# EAGLE library part M8 (library FSAE Electric)
Molex 8-pin Connectors
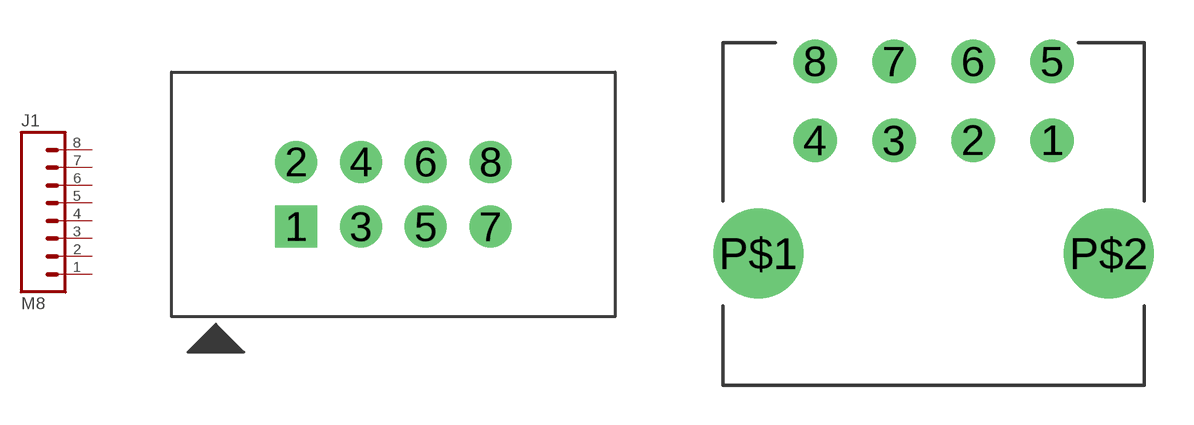
[diagram p8: symbol with the pads of 75869-132LF; footprints 75869-132LF, 0430450821]

Designator prefix J1

## M8IDC  [75869-132LF]
1  1  pas
2  2  pas
3  3  pas
4  4  pas
5  5  pas
6  6  pas
7  7  pas
8  8  pas

## M8NEEDSNEWNAME  [0430450821]
Pads as for 75869-132LF

## M80022232081 (PARTNO: 0022232081)  [MOLEX-1X8]
Pads as for 75869-132LF

## M80022232081-2 (PARTNO: 0022232081)  [MOLEX-1X8-2]
Pads as for 75869-132LF

## M8S08B-PASK-2(LF)(SN) (PARTNO: S08B-PASK-2(LF)(SN))  [S08B-PASK-2(LF)(SN)]
Pads as for 75869-132LF

## M8B08B-PASK(LF)(SN) (PARTNO: B08B-PASK(LF)(SN))  [B08B-PASK(LF)(SN)]
Pads as for 75869-132LF

## Footprint 75869-132LF (pad centres in mm)
drill 1.1 square: 1 -3.81,-1.27
drill 1.1: 2 -3.81,1.27; 3 -1.27,-1.27; 4 -1.27,1.27; 5 1.27,-1.27; 6 1.27,1.27; 7 3.81,-1.27; 8 3.81,1.27

## Footprint 0430450821 (pad centres in mm)
drill 1.1: 1 4.5,4.3; 2 1.5,4.3; 3 -1.5,4.3; 4 -4.5,4.3; 5 4.5,7.3; 6 1.5,7.3; 7 -1.5,7.3; 8 -4.5,7.3
drill 2.41: P$1 -6.65,0; P$2 6.65,0

## Footprint MOLEX-1X8 (pad centres in mm)
1x8 0.1" Header Pin Connector View on DigiKey <http://www.digikey.com/product-detail/en/0022232081/WM4206-ND/26679>
drill 1 octagon: 1 -8.89,0
drill 1 square: 2 -6.35,0; 3 -3.81,0; 4 -1.27,0; 5 1.27,0; 6 3.81,0; 7 6.35,0; 8 8.89,0

## Footprint MOLEX-1X8-2 (pad centres in mm)
drill 1.016 pad 1.88: 1 -8.89,0; 2 -6.35,-0.254; 3 -3.81,0; 4 -1.27,-0.254; 5 1.27,0; 6 3.81,-0.254; 7 6.35,0; 8 8.89,-0.254

## Footprint S08B-PASK-2(LF)(SN) (pad centres in mm)
drill 0.75 square: 1 7,0
drill 0.75: 2 5,0; 3 3,0; 4 1,0; 5 -1,0; 6 -3,0; 7 -5,0; 8 -7,0
hole 1.1 at -8.5,2.1
hole 1.1 at 8.5,2.1

## Footprint B08B-PASK(LF)(SN) (pad centres in mm)
drill 0.75 square: 1 7,0
drill 0.75: 2 5,0; 3 3,0; 4 1,0; 5 -1,0; 6 -3,0; 7 -5,0; 8 -7,0
hole 1.1 at 8.5,1.7